# Altium footprint library ICs.PcbLib: 52 footprints (part 3 of 4)
Each footprint in its own frame and in the unit in brackets; x right, y up, seen from the top. Pads: shape width x height; smd on the part's side, far side on the other; paste and mask are expansions set on the pad; w line width, h text height; cw(c..) or ccw(c..) is an arc to the next point about the centre after c.
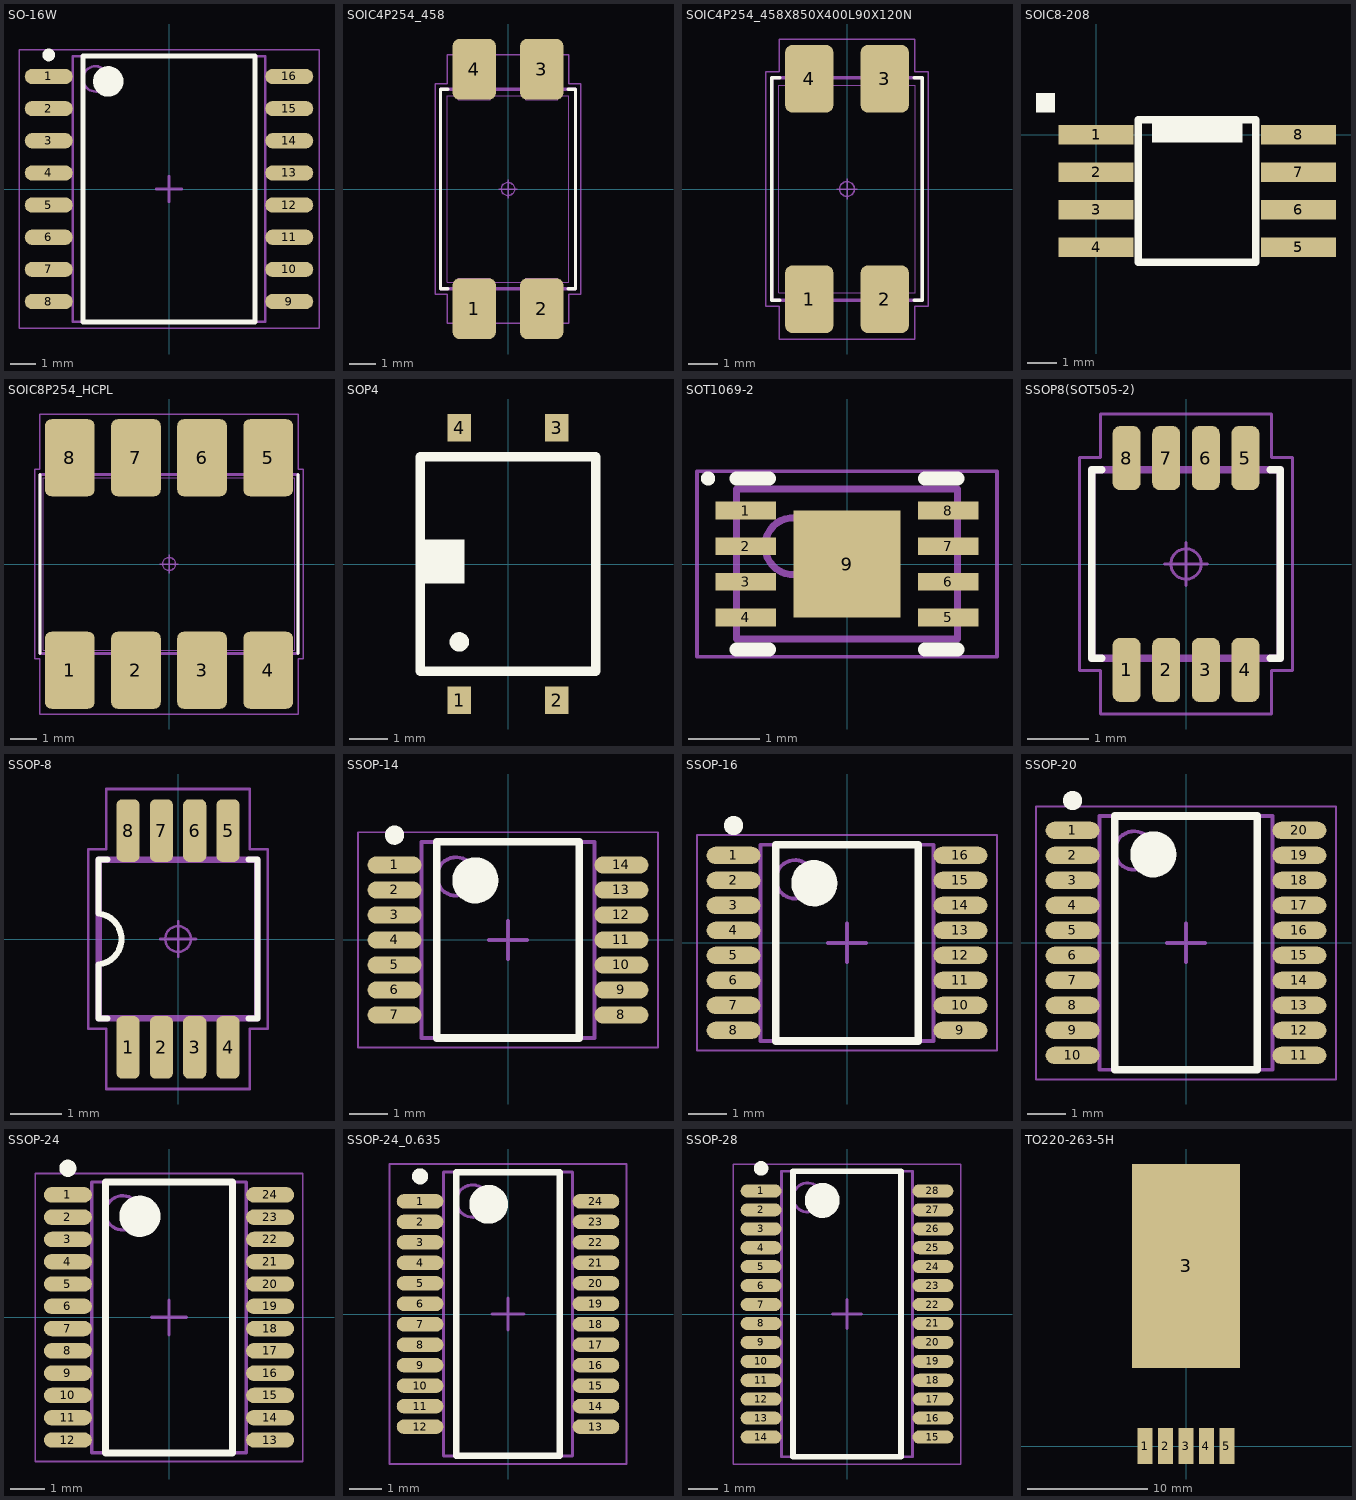
[diagram p2: the footprints below, top view; thin cyan lines are the x and y axes]

## SO-16W [mm] "SOIC, 16-Leads, Body 10,30x7,50mm, Pitch 1,27mm, IPC Medium Density"
height 2.65
pads (16):
  oval 1.9x0.6 smd: 1(-4.75,4.445) 2(-4.75,3.175) 3(-4.75,1.905) 4(-4.75,0.635) 5(-4.75,-0.635) 6(-4.75,-1.905) 7(-4.75,-3.175) 8(-4.75,-4.445) 9(4.75,-4.445) 10(4.75,-3.175) 11(4.75,-1.905) 12(4.75,-0.635) 13(4.75,0.635) 14(4.75,1.905) 15(4.75,3.175) 16(4.75,4.445)
Top Overlay:
  circle w0.25: c-4.75,5.295 r0.125
  circle w0.6: c-2.4,4.25 r0.3
  lines w0.2: -3.4,-5.25 -3.4,5.25 3.4,5.25 3.4,-5.25 -3.4,-5.25
Mechanical 13:
  circle w0.1: c-2.9,4.35 r0.5
  lines w0.1: -3.8,-5.25 -3.8,5.25 3.8,5.25 3.8,-5.25 -3.8,-5.25
Mechanical 15:
  lines w0.05: -5.925,-5.5 -5.925,5.5 5.925,5.5 5.925,-5.5 -5.925,-5.5
  lines w0.1: -0.5,0 0.5,0 ; 0,-0.5 0,0.5
3D body "SOIC-16W_7.5x10.3mm_P1.27mm.step": height 2.75, standoff 0, extent -5.15,-5.15 5.15,5.15

## SOIC4P254_458 [mm] "Small Outline IC (SOIC), 2.54 mm pitch; 4 pin, 4.58 mm L X 7.00 mm W X 4.00 mm H body"
height 4
pads (4):
  rrect31% 1.63x2.28 smd: 1(-1.27,-4.5) 2(1.27,-4.5) 3(1.27,4.5) 4(-1.27,4.5)
Top Overlay:
  lines w0.12: -2.265,-3.75 -2.54,-3.75 -2.54,3.75 -2.265,3.75 ; 2.265,-3.75 2.54,-3.75 2.54,3.75 2.265,3.75
Mechanical 11:
  lines w0.12: -2.54,-3.75 -2.54,3.75 2.54,3.75 2.54,-3.75 -2.54,-3.75
Mechanical 12:
  lines w0.025: -2.29,-3.5 -2.29,3.5 2.29,3.5 2.29,-3.5 -2.29,-3.5 ; -1.87,-4.25 -0.67,-4.25 -0.67,-3.35 -1.87,-3.35 -1.87,-4.25 ; -1.87,3.35 -0.67,3.35 -0.67,4.25 -1.87,4.25 -1.87,3.35 ; 0.67,-4.25 1.87,-4.25 1.87,-3.35 0.67,-3.35 0.67,-4.25 ; 0.67,3.35 1.87,3.35 1.87,4.25 0.67,4.25 0.67,3.35
Mechanical 15:
  circle w0.05: c0,0 r0.25
  lines w0.05: -0.35,0 0.35,0 ; 0,-0.35 0,0.35 ; -2.74,-3.95 -2.74,3.95 -2.285,3.95 -2.285,5.05 2.285,5.05 2.285,3.95 2.74,3.95 2.74,-3.95 2.285,-3.95 2.285,-5.05 -2.285,-5.05 -2.285,-3.95 -2.74,-3.95
Mechanical 16:
  text ".Designator" at 0,0 h1.2
3D body "SOIC4P254_458.STEP": height 4, standoff 0, extent -2.29,-4.25 2.29,4.25

## SOIC4P254_458X850X400L90X120N [mm] "Small Outline IC (SOIC), 2.54 mm pitch; 4 pin, 4.58 mm L X 7.00 mm W X 4.00 mm H body"
height 4
pads (4):
  rrect31% 1.63x2.28 smd: 1(-1.27,-3.71) 2(1.27,-3.71) 3(1.27,3.71) 4(-1.27,3.71)
Top Overlay:
  lines w0.12: -2.265,-3.75 -2.54,-3.75 -2.54,3.75 -2.265,3.75 ; 2.265,-3.75 2.54,-3.75 2.54,3.75 2.265,3.75
Mechanical 11:
  lines w0.12: -2.54,-3.75 -2.54,3.75 2.54,3.75 2.54,-3.75 -2.54,-3.75
Mechanical 12:
  lines w0.025: -2.29,-3.5 -2.29,3.5 2.29,3.5 2.29,-3.5 -2.29,-3.5 ; -1.87,-4.25 -0.67,-4.25 -0.67,-3.35 -1.87,-3.35 -1.87,-4.25 ; -1.87,3.35 -0.67,3.35 -0.67,4.25 -1.87,4.25 -1.87,3.35 ; 0.67,-4.25 1.87,-4.25 1.87,-3.35 0.67,-3.35 0.67,-4.25 ; 0.67,3.35 1.87,3.35 1.87,4.25 0.67,4.25 0.67,3.35
Mechanical 15:
  circle w0.05: c0,0 r0.25
  lines w0.05: -0.35,0 0.35,0 ; 0,-0.35 0,0.35 ; -2.74,-3.95 -2.74,3.95 -2.285,3.95 -2.285,5.05 2.285,5.05 2.285,3.95 2.74,3.95 2.74,-3.95 2.285,-3.95 2.285,-5.05 -2.285,-5.05 -2.285,-3.95 -2.74,-3.95
Mechanical 16:
  text ".Designator" at 0,0 h1.2
3D body "SOIC4P254_458X850X400L90X120.STEP": height 4, standoff 0, extent -2.29,-4.25 2.29,4.25

## SOIC8-208 [mil]
pads (8):
  rect 100x26 smd: 1(0,0) 2(0,-50) 3(0,-100) 4(0,-150) 5(270,-150) 6(270,-100) 7(270,-50) 8(270,0)
Top Overlay:
  region: -80,30 -55,30 -55,55 -80,55
  region: 75,20 75,-10 195,-10 195,20
  lines w10: 56,-170 56,20 213,20 213,-170 56,-170
3D body "SOIC8P127_528X790X100L65X41.STEP": height 39.37, standoff 0, extent -21.65,-178.74 289.37,29.14

## SOIC8P254_HCPL [mm] "Small Outline IC (SOIC), 2.54 mm pitch; 8 pin, 9.655 mm L X 6.605 mm W X 5.08 mm H body"
height 5.08
pads (8):
  rrect26% 1.91x2.96 smd: 1(-3.81,-4.08) 2(-1.27,-4.08) 3(1.27,-4.08) 4(3.81,-4.08) 5(3.81,4.08) 6(1.27,4.08) 7(-1.27,4.08) 8(-3.81,4.08)
Top Overlay:
  lines w0.12: -4.96,-3.43 -4.96,3.43 ; 4.96,-3.43 4.96,3.43
Mechanical 11:
  lines w0.12: -4.96,-3.43 -4.96,3.43 4.96,3.43 4.96,-3.43 -4.96,-3.43
Mechanical 12:
  lines w0.025: -4.828,-3.303 -4.828,3.303 4.828,3.303 4.828,-3.303 -4.828,-3.303 ; -4.54,-5.05 -3.08,-5.05 -3.08,-2.9 -4.54,-2.9 -4.54,-5.05 ; -4.54,2.9 -3.08,2.9 -3.08,5.05 -4.54,5.05 -4.54,2.9 ; -2,-5.05 -0.54,-5.05 -0.54,-2.9 -2,-2.9 -2,-5.05 ; -2,2.9 -0.54,2.9 -0.54,5.05 -2,5.05 -2,2.9 ; 0.54,-5.05 2,-5.05 2,-2.9 0.54,-2.9 0.54,-5.05 ; 0.54,2.9 2,2.9 2,5.05 0.54,5.05 0.54,2.9 ; 3.08,-5.05 4.54,-5.05 4.54,-2.9 3.08,-2.9 3.08,-5.05 ; 3.08,2.9 4.54,2.9 4.54,5.05 3.08,5.05 3.08,2.9
Mechanical 15:
  circle w0.05: c0,0 r0.25
  lines w0.05: -0.35,0 0.35,0 ; 0,-0.35 0,0.35 ; -5.16,-3.63 -5.16,3.63 -4.965,3.63 -4.965,5.76 4.965,5.76 4.965,3.63 5.16,3.63 5.16,-3.63 4.965,-3.63 4.965,-5.76 -4.965,-5.76 -4.965,-3.63 -5.16,-3.63
Mechanical 16:
  text ".Designator" at 0,0 h1.2
3D body "SOIC8P254_HCPL.STEP": height 5.08, standoff 0, extent -4.828,-5.05 4.828,5.05

## SOP4 [mil]
pads (4):
  rect 24x28 smd: 1(-50,-140) 2(50,-140) 3(50,140) 4(-50,140)
Top Overlay:
  circle w10: c-50,-80 r5
  region: -85,-20 -45,-20 -45,25 -85,25
  lines w10: -90,-110 -90,110 90,110 90,-110 -90,-110
3D body "SOIC254P700X210-4N.stp": height 82.68, standoff 0, extent -80.71,-145.67 80.7,145.67

## SOT1069-2 [mm] "8-lead DFN 2*3mm"
height 0.8
pads (9):
  rect 0.85x0.25 smd: 1(-1.42,0.75) 2(-1.42,0.25) 3(-1.42,-0.25) 4(-1.42,-0.75) 5(1.42,-0.75) 6(1.42,-0.25) 7(1.42,0.25) 8(1.42,0.75)
  rect 1.5x1.5 smd: 9(0,0)
Top Overlay:
  circle w0.1: c-1.95,1.2 r0.05
  lines w0.2: -1.55,-1.2 -1.095,-1.2 ; -1.55,1.2 -1.095,1.2 ; 1.095,-1.2 1.55,-1.2 ; 1.095,1.2 1.55,1.2
Mechanical 13:
  circle w0.1: c-0.75,0.25 r0.4
  lines w0.1: -1.55,-1.05 -1.55,1.05 1.55,1.05 1.55,-1.05 -1.55,-1.05
Mechanical 15:
  lines w0.05: -2.105,-1.3 -2.105,1.3 2.105,1.3 2.105,-1.3 -2.105,-1.3
  lines w0.1: -0.5,0 0.5,0 ; 0,-0.5 0,0.5
3D body: height 0.8, standoff 0, extent -1.55,-1.05 1.55,1.05

## SSOP8(SOT505-2) [mm] "Small Outline Pkg (SOP), 0.65 mm pitch; 8 pin, 3.00 mm L X 3.00 mm W X 1.10 mm H body"
height 1.1
pads (8):
  rrect52% 0.46x1.05 smd: 1(-0.975,-1.74) 2(-0.325,-1.74) 3(0.325,-1.74) 4(0.975,-1.74) 5(0.975,1.74) 6(0.325,1.74) 7(-0.325,1.74) 8(-0.975,1.74)
Top Overlay:
  lines w0.12: -1.385,-1.55 -1.55,-1.55 -1.55,1.55 -1.385,1.55 ; 1.385,-1.55 1.55,-1.55 1.55,1.55 1.385,1.55
Mechanical 11:
  lines w0.12: -1.55,-1.55 1.55,-1.55 1.55,1.55 -1.55,1.55 -1.55,-1.55
Mechanical 12:
  lines w0.025: -1.5,-1.5 1.5,-1.5 1.5,1.5 -1.5,1.5 -1.5,-1.5 ; -1.125,-2 -1.125,-1.6 -0.825,-1.6 -0.825,-2 -1.125,-2 ; -1.125,1.6 -1.125,2 -0.825,2 -0.825,1.6 -1.125,1.6 ; -0.475,-2 -0.475,-1.6 -0.175,-1.6 -0.175,-2 -0.475,-2 ; -0.475,1.6 -0.475,2 -0.175,2 -0.175,1.6 -0.475,1.6 ; 0.175,-2 0.175,-1.6 0.475,-1.6 0.475,-2 0.175,-2 ; 0.175,1.6 0.175,2 0.475,2 0.475,1.6 0.175,1.6 ; 0.825,-2 0.825,-1.6 1.125,-1.6 1.125,-2 0.825,-2 ; 0.825,1.6 0.825,2 1.125,2 1.125,1.6 0.825,1.6
Mechanical 15:
  circle w0.05: c0,0 r0.25
  lines w0.05: -0.35,0 0.35,0 ; 0,-0.35 0,0.35 ; -1.75,-1.75 -1.405,-1.75 -1.405,-2.465 1.405,-2.465 1.405,-1.75 1.75,-1.75 1.75,1.75 1.405,1.75 1.405,2.465 -1.405,2.465 -1.405,1.75 -1.75,1.75 -1.75,-1.75
3D body "SSOP8_SOT505-2.STEP": height 1.1, standoff 0, extent -1.5,-2 1.5,2

## SSOP-8 [mm] "Small Outline Pkg (SOP), 0.65 mm pitch; 8 pin, 3.00 mm L X 3.00 mm W X 1.10 mm H body"
height 1.1
pads (8):
  rrect49% 0.45x1.22 smd: 1(-0.975,-2.115) 2(-0.325,-2.115) 3(0.325,-2.115) 4(0.975,-2.115) 5(0.975,2.115) 6(0.325,2.115) 7(-0.325,2.115) 8(-0.975,2.115)
Top Overlay:
  lines w0.12: -1.55,-0.497 ccw(c-1.603,0) -1.55,0.497 ; -1.55,-0.5 -1.55,-1.55 -1.38,-1.55 ; -1.55,0.5 -1.55,1.55 -1.38,1.55 ; 1.38,-1.55 1.55,-1.55 1.55,1.55 1.38,1.55
Mechanical 11:
  lines w0.12: -1.55,-1.55 1.55,-1.55 1.55,1.55 -1.55,1.55 -1.55,-1.55
Mechanical 12:
  lines w0.025: -1.5,-1.5 1.5,-1.5 1.5,1.5 -1.5,1.5 -1.5,-1.5 ; -1.128,-2.452 -1.128,-1.917 -0.823,-1.917 -0.823,-2.452 -1.128,-2.452 ; -1.128,1.917 -1.128,2.452 -0.823,2.452 -0.823,1.917 -1.128,1.917 ; -0.477,-2.452 -0.477,-1.917 -0.172,-1.917 -0.172,-2.452 -0.477,-2.452 ; -0.477,1.917 -0.477,2.452 -0.172,2.452 -0.172,1.917 -0.477,1.917 ; 0.172,-2.452 0.172,-1.917 0.477,-1.917 0.477,-2.452 0.172,-2.452 ; 0.172,1.917 0.172,2.452 0.477,2.452 0.477,1.917 0.172,1.917 ; 0.823,-2.452 0.823,-1.917 1.128,-1.917 1.128,-2.452 0.823,-2.452 ; 0.823,1.917 0.823,2.452 1.128,2.452 1.128,1.917 0.823,1.917
Mechanical 15:
  circle w0.05: c0,0 r0.25
  lines w0.05: -0.35,0 0.35,0 ; 0,-0.35 0,0.35 ; -1.75,-1.75 -1.4,-1.75 -1.4,-2.925 1.4,-2.925 1.4,-1.75 1.75,-1.75 1.75,1.75 1.4,1.75 1.4,2.925 -1.4,2.925 -1.4,1.75 -1.75,1.75 -1.75,-1.75
3D body "SOP8P65_300X490X110L53X30.STEP": height 1.1, standoff 0, extent -1.5,-2.452 1.5,2.452

## SSOP-14 [mm] "TSOP, 14-Leads, Body 5,00x4,40mm, Pitch 0,65mm, IPC Medium Density"
height 1.1
pads (14):
  oval 1.4x0.45 smd: 1(-2.95,1.95) 2(-2.95,1.3) 3(-2.95,0.65) 4(-2.95,0) 5(-2.95,-0.65) 6(-2.95,-1.3) 7(-2.95,-1.95) 8(2.95,-1.95) 9(2.95,-1.3) 10(2.95,-0.65) 11(2.95,0) 12(2.95,0.65) 13(2.95,1.3) 14(2.95,1.95)
Top Overlay:
  circle w0.25: c-2.95,2.725 r0.125
  circle w0.6: c-0.85,1.55 r0.3
  lines w0.2: -1.85,-2.55 -1.85,2.55 1.85,2.55 1.85,-2.55 -1.85,-2.55
Mechanical 13:
  circle w0.1: c-1.35,1.65 r0.5
  lines w0.1: -2.25,-2.55 -2.25,2.55 2.25,2.55 2.25,-2.55 -2.25,-2.55
Mechanical 15:
  lines w0.05: -3.9,-2.8 -3.9,2.8 3.9,2.8 3.9,-2.8 -3.9,-2.8
  lines w0.1: -0.5,0 0.5,0 ; 0,-0.5 0,0.5
3D body "TSOP65P640X110-14N.step": height 1.1, standoff 0, extent -3.2,-2.55 3.2,2.55

## SSOP-16 [mm] "TSOP, 16-Leads, Body 5,00x4,40mm, Pitch 0,65mm, IPC Medium Density"
height 1.1
pads (16):
  oval 1.4x0.45 smd: 1(-2.95,2.275) 2(-2.95,1.625) 3(-2.95,0.975) 4(-2.95,0.325) 5(-2.95,-0.325) 6(-2.95,-0.975) 7(-2.95,-1.625) 8(-2.95,-2.275) 9(2.95,-2.275) 10(2.95,-1.625) 11(2.95,-0.975) 12(2.95,-0.325) 13(2.95,0.325) 14(2.95,0.975) 15(2.95,1.625) 16(2.95,2.275)
Top Overlay:
  circle w0.25: c-2.95,3.05 r0.125
  circle w0.6: c-0.85,1.55 r0.3
  lines w0.2: -1.85,-2.55 -1.85,2.55 1.85,2.55 1.85,-2.55 -1.85,-2.55
Mechanical 13:
  circle w0.1: c-1.35,1.65 r0.5
  lines w0.1: -2.25,-2.55 -2.25,2.55 2.25,2.55 2.25,-2.55 -2.25,-2.55
Mechanical 15:
  lines w0.05: -3.9,-2.8 -3.9,2.8 3.9,2.8 3.9,-2.8 -3.9,-2.8
  lines w0.1: -0.5,0 0.5,0 ; 0,-0.5 0,0.5
3D body "SSOP-16_4.4x5.2mm_P0.65mm.step": height 1.4, standoff 0, extent -3.25,-2.6 3.25,2.6

## SSOP-20 [mm] "TSOP, 20-Leads, Body 6,50x4,40mm, Pitch 0,65mm, IPC Medium Density"
height 1.1
pads (20):
  oval 1.4x0.45 smd: 1(-2.95,2.925) 2(-2.95,2.275) 3(-2.95,1.625) 4(-2.95,0.975) 5(-2.95,0.325) 6(-2.95,-0.325) 7(-2.95,-0.975) 8(-2.95,-1.625) 9(-2.95,-2.275) 10(-2.95,-2.925) 11(2.95,-2.925) 12(2.95,-2.275) 13(2.95,-1.625) 14(2.95,-0.975) 15(2.95,-0.325) 16(2.95,0.325) 17(2.95,0.975) 18(2.95,1.625) 19(2.95,2.275) 20(2.95,2.925)
Top Overlay:
  circle w0.25: c-2.95,3.7 r0.125
  circle w0.6: c-0.85,2.3 r0.3
  lines w0.2: -1.85,-3.3 -1.85,3.3 1.85,3.3 1.85,-3.3 -1.85,-3.3
Mechanical 13:
  circle w0.1: c-1.35,2.4 r0.5
  lines w0.1: -2.25,-3.3 -2.25,3.3 2.25,3.3 2.25,-3.3 -2.25,-3.3
Mechanical 15:
  lines w0.05: -3.9,-3.55 -3.9,3.55 3.9,3.55 3.9,-3.55 -3.9,-3.55
  lines w0.1: -0.5,0 0.5,0 ; 0,-0.5 0,0.5
3D body "SSOP-20_4.4x6.5mm_P0.65mm.step": height 1.4, standoff 0, extent -3.2,-3.25 3.2,3.25

## SSOP-24 [mm] "TSOP, 24-Leads, Body 7,80x4,40mm, Pitch 0,65mm, IPC Medium Density"
height 1.1
pads (24):
  oval 1.4x0.45 smd: 1(-2.95,3.575) 2(-2.95,2.925) 3(-2.95,2.275) 4(-2.95,1.625) 5(-2.95,0.975) 6(-2.95,0.325) 7(-2.95,-0.325) 8(-2.95,-0.975) 9(-2.95,-1.625) 10(-2.95,-2.275) 11(-2.95,-2.925) 12(-2.95,-3.575) 13(2.95,-3.575) 14(2.95,-2.925) 15(2.95,-2.275) 16(2.95,-1.625) 17(2.95,-0.975) 18(2.95,-0.325) 19(2.95,0.325) 20(2.95,0.975) 21(2.95,1.625) 22(2.95,2.275) 23(2.95,2.925) 24(2.95,3.575)
Top Overlay:
  circle w0.25: c-2.95,4.35 r0.125
  circle w0.6: c-0.85,2.95 r0.3
  lines w0.2: -1.85,-3.95 -1.85,3.95 1.85,3.95 1.85,-3.95 -1.85,-3.95
Mechanical 13:
  circle w0.1: c-1.35,3.05 r0.5
  lines w0.1: -2.25,-3.95 -2.25,3.95 2.25,3.95 2.25,-3.95 -2.25,-3.95
Mechanical 15:
  lines w0.05: -3.9,-4.2 -3.9,4.2 3.9,4.2 3.9,-4.2 -3.9,-4.2
  lines w0.1: -0.5,0 0.5,0 ; 0,-0.5 0,0.5
3D body "SSOP-24_3.9x8.7mm_P0.635mm.step": height 1.65, standoff 0, extent -3,-4.35 3,4.35

## SSOP-24_0.635 [mm] "SOP, 24-Leads, Body 8,65x3,90mm, Pitch 0,64mm, IPC Medium Density"
height 1.75
pads (24):
  oval 1.45x0.45 smd: 1(-2.725,3.492) 2(-2.725,2.857) 3(-2.725,2.222) 4(-2.725,1.587) 5(-2.725,0.953) 6(-2.725,0.318) 7(-2.725,-0.318) 8(-2.725,-0.953) 9(-2.725,-1.587) 10(-2.725,-2.222) 11(-2.725,-2.857) 12(-2.725,-3.492) 13(2.725,-3.492) 14(2.725,-2.857) 15(2.725,-2.222) 16(2.725,-1.587) 17(2.725,-0.953) 18(2.725,-0.318) 19(2.725,0.318) 20(2.725,0.953) 21(2.725,1.587) 22(2.725,2.222) 23(2.725,2.857) 24(2.725,3.492)
Top Overlay:
  circle w0.6: c-0.6,3.4 r0.3
  circle w0.25: c-2.725,4.267 r0.125
  lines w0.2: -1.6,-4.4 1.6,-4.4 1.6,4.4 -1.6,4.4 -1.6,-4.4
Mechanical 13:
  circle w0.1: c-1.1,3.5 r0.5
  lines w0.1: -2,-4.4 2,-4.4 2,4.4 -2,4.4 -2,-4.4
Mechanical 15:
  lines w0.05: -3.675,-4.65 3.675,-4.65 3.675,4.65 -3.675,4.65 -3.675,-4.65
  lines w0.1: -0.5,0 0.5,0 ; 0,-0.5 0,0.5
3D body "SOP64P600X175-24N.step": height 1.75, standoff 0, extent -3,-4.4 3,4.4

## SSOP-28 [mm] "TSOP, 28-Leads, Body 9,70x4,40mm, Pitch 0,65mm, IPC Medium Density"
height 1.1
pads (28):
  oval 1.4x0.45 smd: 1(-2.95,4.225) 2(-2.95,3.575) 3(-2.95,2.925) 4(-2.95,2.275) 5(-2.95,1.625) 6(-2.95,0.975) 7(-2.95,0.325) 8(-2.95,-0.325) 9(-2.95,-0.975) 10(-2.95,-1.625) 11(-2.95,-2.275) 12(-2.95,-2.925) 13(-2.95,-3.575) 14(-2.95,-4.225) 15(2.95,-4.225) 16(2.95,-3.575) 17(2.95,-2.925) 18(2.95,-2.275) 19(2.95,-1.625) 20(2.95,-0.975) 21(2.95,-0.325) 22(2.95,0.325) 23(2.95,0.975) 24(2.95,1.625) 25(2.95,2.275) 26(2.95,2.925) 27(2.95,3.575) 28(2.95,4.225)
Top Overlay:
  circle w0.6: c-0.85,3.9 r0.3
  circle w0.25: c-2.95,5 r0.125
  lines w0.2: -1.85,-4.9 1.85,-4.9 1.85,4.9 -1.85,4.9 -1.85,-4.9
Mechanical 13:
  circle w0.1: c-1.35,4 r0.5
  lines w0.1: -2.25,-4.9 2.25,-4.9 2.25,4.9 -2.25,4.9 -2.25,-4.9
Mechanical 15:
  lines w0.05: -3.9,-5.15 3.9,-5.15 3.9,5.15 -3.9,5.15 -3.9,-5.15
  lines w0.1: -0.5,0 0.5,0 ; 0,-0.5 0,0.5
3D body: height 1.1, standoff 0.05, extent -2.25,-4.9 2.25,4.9

## TO220-263-5H [mm]
pads (6):
  rect 1.25x3 smd mask+0.1: 1(-3.4,0) 2(-1.7,0) 3(0,0) 4(1.7,0) 5(3.4,0)
  rect 9x17 smd mask+0.1: 3(0,15)
3D body "TO-263-5_TabPin3.step": height 4.42, standoff 0, extent -5,-0.5 5,14.5